# EAGLE library part 74HC595 (library omcLogic)
HC(T)595 - 8bit serial-in, serial or parallel-out shift register with output latches Supply Voltage Range from 4.5V to 5.5V Sinks or sources 8mA at VCC = 4.5V 8-bit serial input 8-bit serial or parallel output Storage register with 3-state outputs Shift register with direct clear 100 MHz (typical) shift out frequency Diodes Incorporated <https://www.diodes.com/assets/Datasheets/74HCT595.pdf> Reichelt Datasheet <http://cdn-reichelt.de/documents/datenblatt/A200/smd_hc_595.pdf>
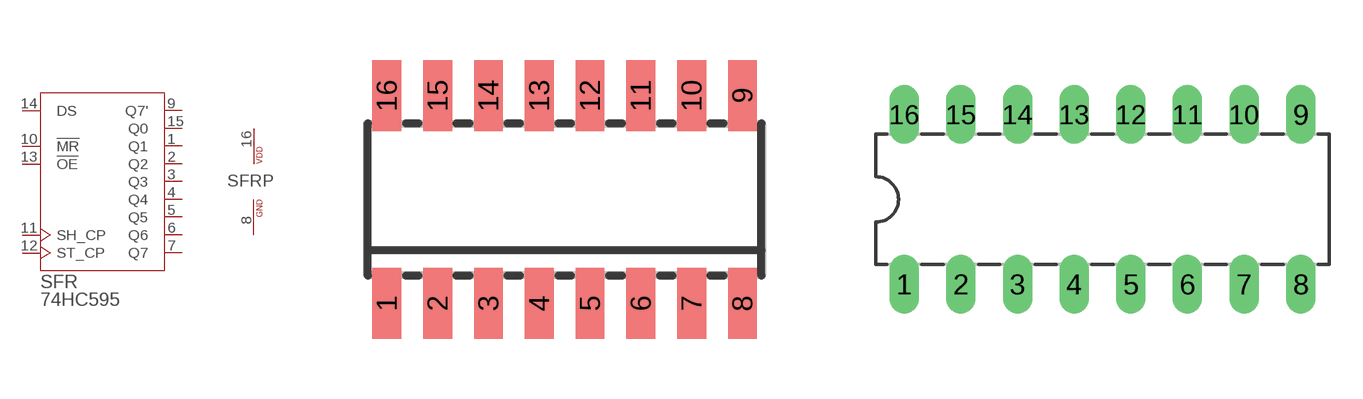
[diagram p0: symbol with the pads of SOIC16; footprints SOIC16, DIL16]

Designator prefix SFR; gates G$1=74HC595 P=PWR

## 74HC595D (DIST#REICHELT#: SMD HC 595; VALUE: 74HC595; VENDOR#: Diodes Incorporated,74HCT595S16)  [SOIC16]
1  G$1:Q1  out
2  G$1:Q2  out
3  G$1:Q3  out
4  G$1:Q4  out
5  G$1:Q5  out
6  G$1:Q6  out
7  G$1:Q7  out
8  P:GND  pwr
9  G$1:Q7'  out
10  G$1:!MR  in
11  G$1:SH_CP  in
12  G$1:ST_CP  in
13  G$1:!OE  in
14  G$1:DS  in
15  G$1:Q0  out
16  P:VDD  pwr

## 74HC595N (DIST#REICHELT#: 74HC 595; VALUE: 74HC595)  [DIL16]
Pads as for SOIC16

## Footprint SOIC16 (pad centres in mm)
SOIC16 SMD 9.8mm×6.2mm Mechanical <https://www.centralsemi.com/PDFs/case/SOIC-16PD.PDF> Wikipedia <https://en.wikipedia.org/wiki/Small_Outline_Integrated_Circuit>
smd 0.72 x 1.78: 1 -4.445,-2.6; 2 -3.175,-2.6; 3 -1.905,-2.6; 4 -0.635,-2.6; 5 0.635,-2.6; 6 1.905,-2.6; 7 3.175,-2.6; 8 4.445,-2.6; 9 4.445,2.6; 10 3.175,2.6; 11 1.905,2.6; 12 0.635,2.6; 13 -0.635,2.6; 14 -1.905,2.6; 15 -3.175,2.6; 16 -4.445,2.6

## Footprint DIL16 (pad centres in mm)
DIL16 DIP16 THT 19.45mm×7.62mm Mechanical <http://www.onsemi.com/pub_link/Collateral/646AP.PDF> Wikipedia <https://en.wikipedia.org/wiki/Dual_in-line_package>
drill 0.813 long: 1 -8.89,-3.81; 2 -6.35,-3.81; 3 -3.81,-3.81; 4 -1.27,-3.81; 5 1.27,-3.81; 6 3.81,-3.81; 7 6.35,-3.81; 8 8.89,-3.81; 9 8.89,3.81; 10 6.35,3.81; 11 3.81,3.81; 12 1.27,3.81; 13 -1.27,3.81; 14 -3.81,3.81; 15 -6.35,3.81; 16 -8.89,3.81